# Altium schematic symbol library УГО.SchLib: 12 symbols
Pins are listed as number, name and electrical type; pins without a type are passive.

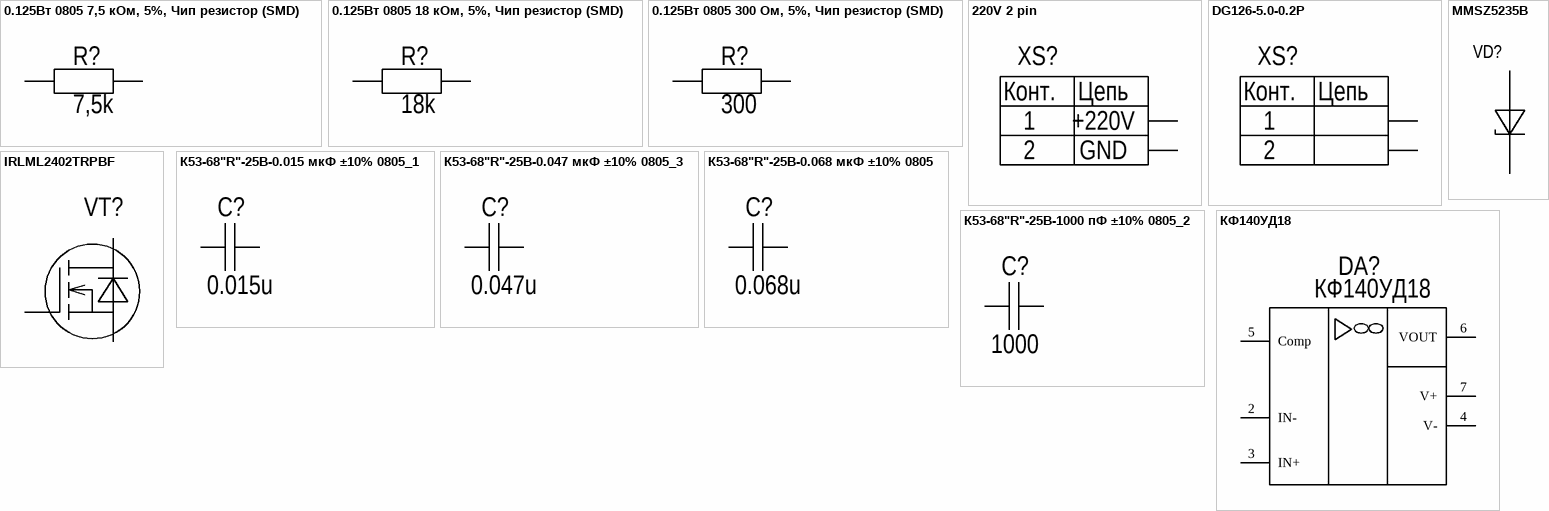
[diagram p0: symbols 0.125Вт 0805 7,5 кОм, 5%, Чип резистор (SMD) to КФ140УД18]

## 0.125Вт 0805 7,5 кОм, 5%, Чип резистор (SMD)
designator R?, comment 7,5k
0805-0.125 Вт -7,5 кОм±5%
footprint 0805 (Чип (SMD))
pins: 1, 2

## 0.125Вт 0805 18 кОм, 5%, Чип резистор (SMD)
designator R?, comment 18k
0805-0.125 Вт -18 кОм±5%
footprint 0805 (Чип (SMD))
pins: 1, 2

## 0.125Вт 0805 300 Ом, 5%, Чип резистор (SMD)
designator R?, comment 300
0805-0.125 Вт -300 Ом±5%
footprint 0805 (Чип (SMD))
pins: 1, 2

## 220V 2 pin
designator XS?  (value not drawn)
DG126-5.0-0.2P
footprint DG126-5.0-02P
pins: 1 Pin1, 2 Pin2
text: Конт.; Цепь; +220V; GND

## DG126-5.0-0.2P
designator XS?  (value not drawn)
DG126-5.0-0.2P
footprint DG126-5.0-02P
pins: 1 Pin1, 2 Pin2
text: Конт.; Цепь

## IRLML2402TRPBF
designator VT?  (value not drawn)
SI2304DDS-T1-GE3
footprint SOT23 (SOT23, 3-Leads, Body 2,92x2,45mm, Pitch 0,95mm, IPC Medium Density)
pins: 1 G, 2 S, 3 D

## MMSZ5235B
designator VD?  (value not drawn)
MMSZ5235B
footprint SOD-123 ((SMD))
pins: 1 In, 2 Out

## К53-68"R"-25В-0.015 мкФ ±10% 0805_1
designator C?, comment 0.015u
К53-68"R"-25В-0.015 мкФ ±10%
footprint 0805 (Чип (SMD))
pins: 1, 2

## К53-68"R"-25В-0.047 мкФ ±10% 0805_3
designator C?, comment 0.047u
К53-68"R"-25В-0.047 мкФ ±10%
footprint 0805 (Чип (SMD))
pins: 1, 2

## К53-68"R"-25В-0.068 мкФ ±10% 0805
designator C?, comment 0.068u
К53-68"R"-25В-0.068 мкФ ±10%
footprint 0805 (Чип (SMD))
pins: 1, 2

## К53-68"R"-25В-1000 пФ ±10% 0805_2
designator C?, comment 1000
К53-68"R"-25В-1000 пФ ±10%
footprint 0805 (Чип (SMD))
pins: 1, 2

## КФ140УД18
designator DA?
footprint SOIC-8 (SOIC, 8-Leads, Body 4,90x3,90mm, Pitch 1,27mm, IPC Medium Density)
pins: 2 IN-, 3 IN+, 4 V-, 5 Comp, 6 VOUT, 7 V+